# EAGLE library part INA126 (library 0SBLib)
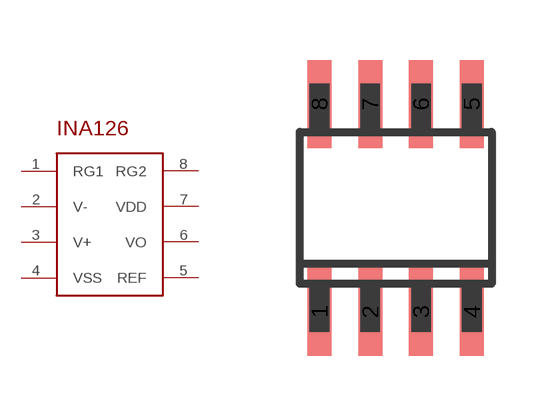
[diagram p5: symbol with the pads of SO-08; footprint SO-08]

Designator prefix -

## INA126  [SO-08]
1  RG1
2  V-
3  V+
4  VSS
5  REF
6  VO
7  VDD
8  RG2

## Footprint SO-08 (pad centres in mm)
Small Outline Narrow Plastic Gull Wing 150-mil body, package type SN
smd 0.6 x 2.2: 1 -1.905,-2.6; 2 -0.635,-2.6; 3 0.635,-2.6; 4 1.905,-2.6; 5 1.905,2.6; 6 0.635,2.6; 7 -0.635,2.6; 8 -1.905,2.6